# EAGLE library part STM32G484MET6 (library STM32G484MET6)
Mainstream Arm Cortex-M4 MCU 170 MHz with 512 Kbytes of Flash memory, Math Accelerator, HR Timer, High Analog level integration, Crypto Source: Datasheet <https://www.st.com/resource/en/datasheet/stm32g484ce.pdf>
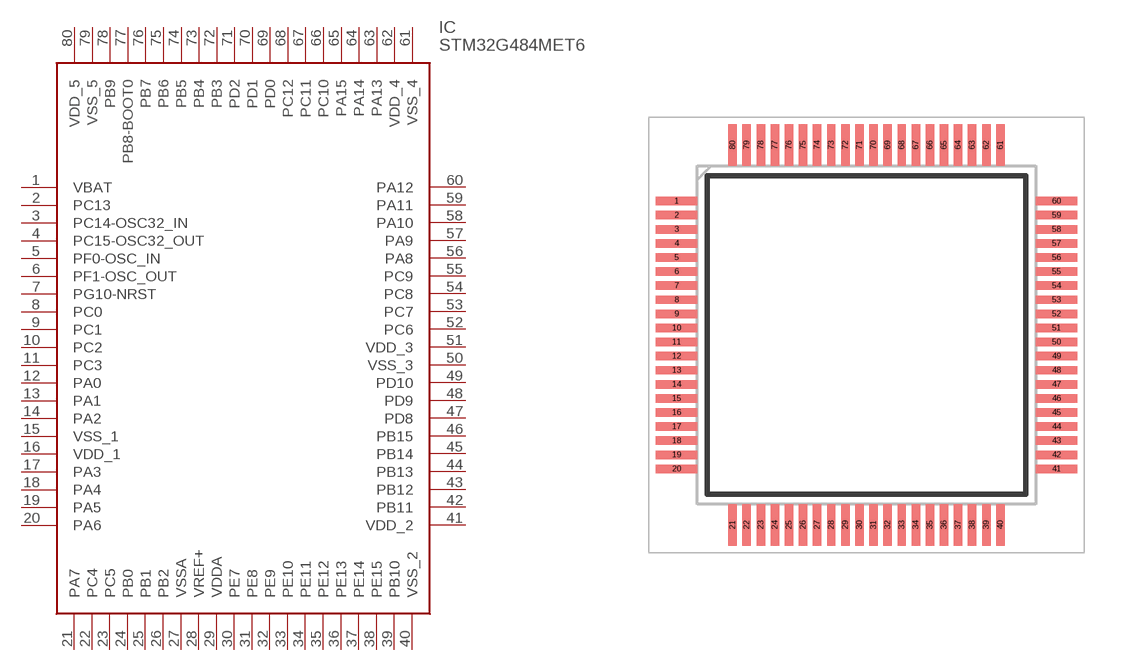
[diagram p0: symbol with the pads of QFP50P1400X1400X160-80N; footprint QFP50P1400X1400X160-80N]

Designator prefix IC

## STM32G484MET6 (Description: Mainstream Arm Cortex-M4 MCU 170 MHz with 512 Kbytes of Flash memory, Math Accelerator, HR Timer, High Analog level integration, Crypto; Height: 1.6mm; Manufacturer_Name: STMicroelectronics; Manufacturer_Part_Number: STM32G484MET6; Mouser_Part_Number: 511-STM32G484MET6; Mouser_Price-Stock: https://www.mouser.co.uk/ProductDetail/STMicroelectronics/STM32G484MET6?qs=sPbYRqrBIVmVsNfdY6f7Rg%3D%3D)  [QFP50P1400X1400X160-80N]
1  VBAT
2  PC13
3  PC14-OSC32_IN
4  PC15-OSC32_OUT
5  PF0-OSC_IN
6  PF1-OSC_OUT
7  PG10-NRST
8  PC0
9  PC1
10  PC2
11  PC3
12  PA0
13  PA1
14  PA2
15  VSS_1
16  VDD_1
17  PA3
18  PA4
19  PA5
20  PA6
21  PA7
22  PC4
23  PC5
24  PB0
25  PB1
26  PB2
27  VSSA
28  VREF+
29  VDDA
30  PE7
31  PE8
32  PE9
33  PE10
34  PE11
35  PE12
36  PE13
37  PE14
38  PE15
39  PB10
40  VSS_2
41  VDD_2
42  PB11
43  PB12
44  PB13
45  PB14
46  PB15
47  PD8
48  PD9
49  PD10
50  VSS_3
51  VDD_3
52  PC6
53  PC7
54  PC8
55  PC9
56  PA8
57  PA9
58  PA10
59  PA11
60  PA12
61  VSS_4
62  VDD_4
63  PA13
64  PA14
65  PA15
66  PC10
67  PC11
68  PC12
69  PD0
70  PD1
71  PD2
72  PB3
73  PB4
74  PB5
75  PB6
76  PB7
77  PB8-BOOT0
78  PB9
79  VSS_5
80  VDD_5

## Footprint QFP50P1400X1400X160-80N (pad centres in mm)
LQFP 80 12x12x1.4 mm
smd 1.475 x 0.3: 1 -6.738,4.75; 2 -6.738,4.25; 3 -6.738,3.75; 4 -6.738,3.25; 5 -6.738,2.75; 6 -6.738,2.25; 7 -6.738,1.75; 8 -6.738,1.25; 9 -6.738,0.75; 10 -6.738,0.25; 11 -6.738,-0.25; 12 -6.738,-0.75; 13 -6.738,-1.25; 14 -6.738,-1.75; 15 -6.738,-2.25; 16 -6.738,-2.75; 17 -6.738,-3.25; 18 -6.738,-3.75; 19 -6.738,-4.25; 20 -6.738,-4.75; 41 6.738,-4.75; 42 6.738,-4.25; 43 6.738,-3.75; 44 6.738,-3.25; 45 6.738,-2.75; 46 6.738,-2.25; 47 6.738,-1.75; 48 6.738,-1.25; 49 6.738,-0.75; 50 6.738,-0.25; 51 6.738,0.25; 52 6.738,0.75; 53 6.738,1.25; 54 6.738,1.75; 55 6.738,2.25; 56 6.738,2.75; 57 6.738,3.25; 58 6.738,3.75; 59 6.738,4.25; 60 6.738,4.75
smd 0.3 x 1.475: 21 -4.75,-6.738; 22 -4.25,-6.738; 23 -3.75,-6.738; 24 -3.25,-6.738; 25 -2.75,-6.738; 26 -2.25,-6.738; 27 -1.75,-6.738; 28 -1.25,-6.738; 29 -0.75,-6.738; 30 -0.25,-6.738; 31 0.25,-6.738; 32 0.75,-6.738; 33 1.25,-6.738; 34 1.75,-6.738; 35 2.25,-6.738; 36 2.75,-6.738; 37 3.25,-6.738; 38 3.75,-6.738; 39 4.25,-6.738; 40 4.75,-6.738; 61 4.75,6.738; 62 4.25,6.738; 63 3.75,6.738; 64 3.25,6.738; 65 2.75,6.738; 66 2.25,6.738; 67 1.75,6.738; 68 1.25,6.738; 69 0.75,6.738; 70 0.25,6.738; 71 -0.25,6.738; 72 -0.75,6.738; 73 -1.25,6.738; 74 -1.75,6.738; 75 -2.25,6.738; 76 -2.75,6.738; 77 -3.25,6.738; 78 -3.75,6.738; 79 -4.25,6.738; 80 -4.75,6.738